# Altium footprint library fairy_lights_button.PcbLib: 10 footprints
Each footprint in its own frame and in the unit in brackets; x right, y up, seen from the top. Pads: shape width x height; smd on the part's side, far side on the other; paste and mask are expansions set on the pad; w line width, h text height; cw(c..) or ccw(c..) is an arc to the next point about the centre after c.
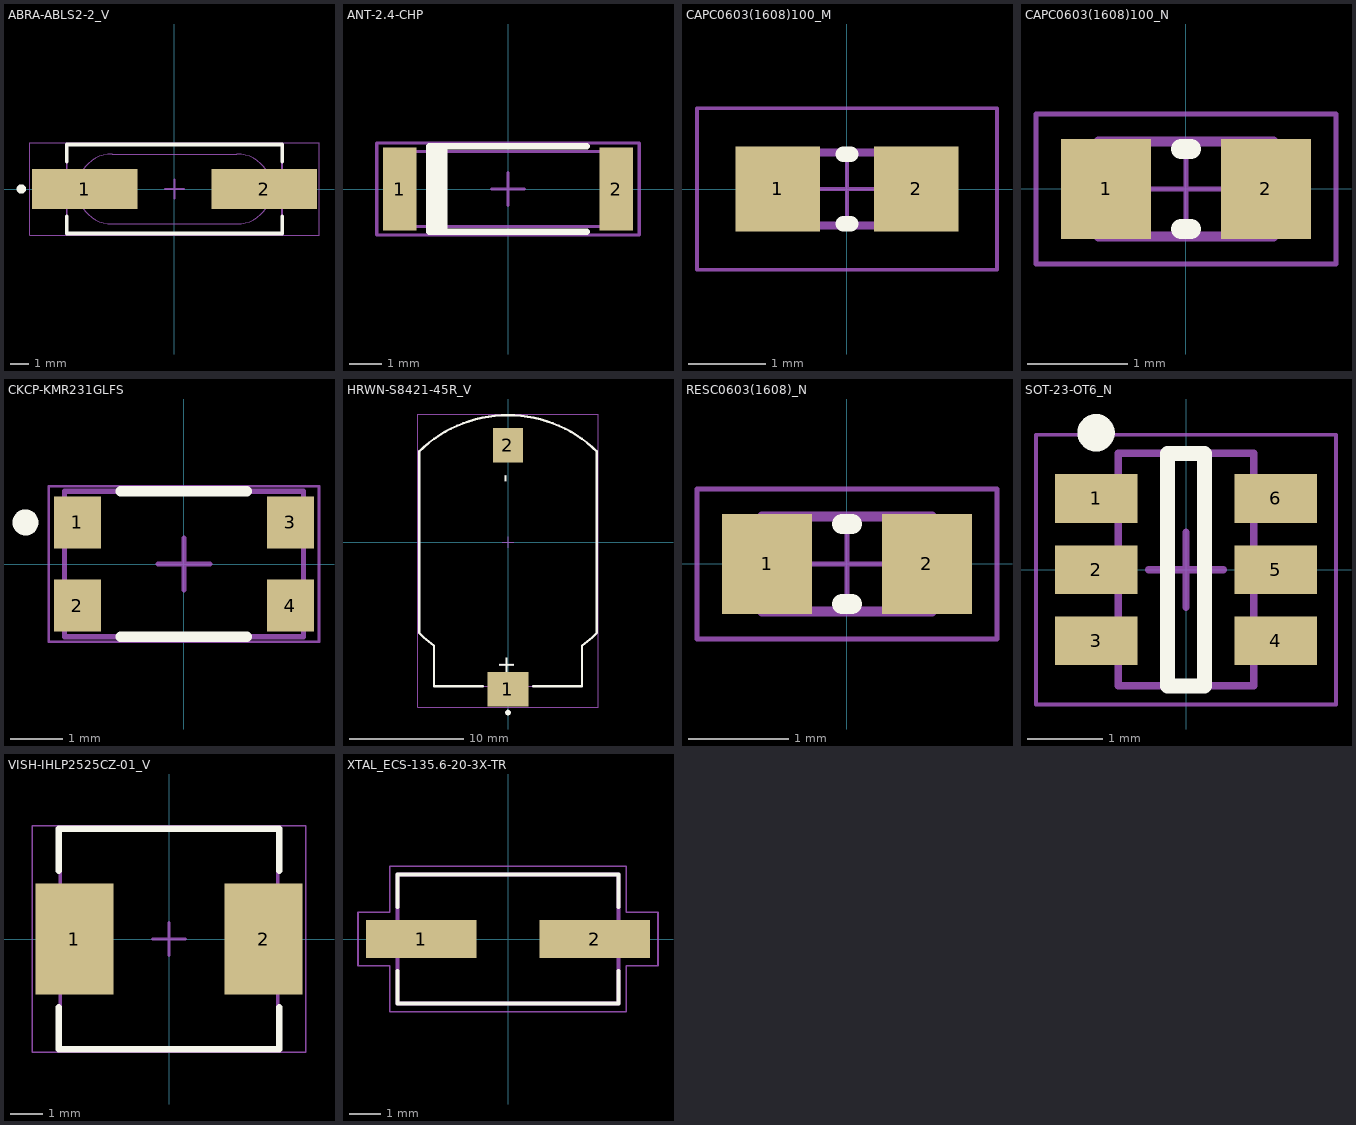
[diagram p0: the footprints below, top view; thin cyan lines are the x and y axes]

## ABRA-ABLS2-2_V [mm] "SMD, 2-Leads, Body 11.4x4.7mm, Height 3.3mm"
height 3.3
pads (2):
  rect 5.6x2.1 smd: 1(-4.75,0) 2(4.75,0)
Top Overlay:
  circle w0.25: c-8.1,0 r0.125
  lines w0.2: -5.7,-1.45 -5.7,-2.35 5.7,-2.35 5.7,-1.45 ; -5.7,1.45 -5.7,2.35 5.7,2.35 5.7,1.45
Mechanical 13:
  lines w0.05: -3.3,-1.85 cw(c-3.3,0) -3.3,1.85 3.3,1.85 cw(c3.3,0) 3.3,-1.85 -3.3,-1.85
  lines w0.1: -5.7,-2.35 5.7,-2.35 5.7,2.35 -5.7,2.35 -5.7,-2.35
Mechanical 15:
  lines w0.05: -7.65,-2.45 -7.65,2.45 7.65,2.45 7.65,-2.45 -7.65,-2.45
  lines w0.1: -0.5,0 0.5,0 ; 0,-0.5 0,0.5
3D body: height 3.3, standoff 0.5, extent -5.151,-1.851 5.151,1.851
3D body: height 0.5, standoff 0, extent -5.699,-2.349 5.699,2.349

## ANT-2.4-CHP [mil] "SM Antenna, 2-Lead, Body 6.5x2.2x1.0mm"
height 39.37
pads (2):
  rect 40x100 smd: 1(-130,0) 2(130,0)
Top Overlay:
  rectangle: -94.48,-51.18 -72.83,51.18
  lines w7.87: 94.49,-51.18 -94.49,-51.18 -94.49,51.18 94.49,51.18
Mechanical 13:
  lines w3.94: -130,-45 -130,45 130,45 130,-45 -130,-45
Mechanical 15:
  lines w3.94: -19.69,0 19.68,0 ; 0,-19.68 0,19.69 ; 157.48,-55.12 157.48,55.12 ; 157.48,-55.12 157.48,-55.12 ; 157.48,-55.12 -157.48,-55.12 -157.48,55.12 157.48,55.12 ; 157.48,-55.12 157.48,55.12 ; 157.48,55.12 157.48,55.12
3D body: height 40, standoff 0, extent -130,-45 130,45

## CAPC0603(1608)100_M [mm] "Chip Capacitor, Body 1.6x0.8mm, Height 1.0mm, IPC Low Density"
height 1
pads (2):
  rect 1.1x1.1 smd: 1(-0.9,0) 2(0.9,0)
Top Overlay:
  lines w0.2: -0.05,-0.45 0.05,-0.45 ; -0.05,0.45 0.05,0.45
Mechanical 13:
  lines w0.1: -0.875,-0.475 -0.875,0.475 0.875,0.475 0.875,-0.475 -0.875,-0.475
Mechanical 15:
  lines w0.05: -0.475,0 0.475,0 ; 0,-0.475 0,0.475 ; -1.95,-1.05 -1.95,1.05 1.95,1.05 1.95,-1.05 -1.95,-1.05
3D body: height 1, standoff 0, extent -0.525,-0.475 0.525,0.475
3D body: height 1, standoff 0, extent -0.875,-0.475 -0.525,0.475
3D body: height 1, standoff 0, extent 0.525,-0.475 0.875,0.475

## CAPC0603(1608)100_N [mm] "Chip Capacitor, Body 1.6x0.8mm, Height 1.0mm, IPC Medium Density"
height 1
pads (2):
  rect 0.9x1 smd: 1(-0.8,0) 2(0.8,0)
Top Overlay:
  lines w0.2: -0.05,-0.4 0.05,-0.4 ; -0.05,0.4 0.05,0.4
Mechanical 13:
  lines w0.1: -0.875,-0.475 -0.875,0.475 0.875,0.475 0.875,-0.475 -0.875,-0.475
Mechanical 15:
  lines w0.05: -0.475,0 0.475,0 ; 0,-0.475 0,0.475 ; -1.5,-0.75 -1.5,0.75 1.5,0.75 1.5,-0.75 -1.5,-0.75
3D body: height 1, standoff 0, extent -0.525,-0.475 0.525,0.475
3D body: height 1, standoff 0, extent -0.875,-0.475 -0.525,0.475
3D body: height 1, standoff 0, extent 0.525,-0.475 0.875,0.475

## CKCP-KMR231GLFS [mm] "SMD, 4-Leads, Body 4.6x2.8mm"
height 1.9
pads (4):
  rect 0.9x1 smd: 1(-2.05,0.8) 2(-2.05,-0.8) 3(2.05,0.8) 4(2.05,-0.8)
Top Overlay:
  circle w0.25: c-3.05,0.8 r0.125
  lines w0.2: -1.213,-1.4 1.213,-1.4 ; -1.213,1.4 1.213,1.4
Mechanical 13:
  lines w0.1: -2.3,-1.4 -2.3,1.4 2.3,1.4 2.3,-1.4 -2.3,-1.4
Mechanical 15:
  lines w0.05: -2.6,-1.5 2.6,-1.5 2.6,1.5 -2.6,1.5 -2.6,-1.5
  lines w0.1: -0.5,0 0.5,0 ; 0,-0.5 0,0.5
3D body "CU78M2G001FP-Q.stp": height 1.92, standoff -0.02, extent -2.3,-1.4 2.3,1.4

## HRWN-S8421-45R_V [mm] "Holder, 2-Leads, Body 23.79x15.6mm"
height 5.6
pads (2):
  rect 3.6x3 smd: 1(0,-12.9)
  rect 2.6x3 smd: 2(0,8.5)
Top Overlay:
  circle w0.25: c0,-14.95 r0.125
  lines w0.2: -7.8,-7.97 -7.8,7.97 ; -7.799,-7.969 ccw(c0,0) -6.5,-9.06 -6.5,-12.64 -2.2,-12.64 ; -7.799,7.969 cw(c0,0) 7.799,7.969 ; 2.2,-12.64 6.5,-12.64 6.5,-9.06 ccw(c0,0) 7.799,-7.969 ; 7.8,-7.97 7.8,7.97
  text "+" at -0.75,-9.9 h1.5
  text "-" at -0.762,5.207 h1.5
Mechanical 13:
  lines w0.1: -7.8,-7.97 -7.8,7.97 ; -7.799,-7.969 ccw(c0,0) -6.5,-9.06 -6.5,-12.64 6.5,-12.64 6.5,-9.06 ccw(c0,0) 7.799,-7.969 ; -7.799,7.969 cw(c0,0) 7.799,7.969 ; 7.8,-7.97 7.8,7.97
Mechanical 15:
  lines w0.05: -7.9,-14.5 7.9,-14.5 7.9,11.25 -7.9,11.25 -7.9,-14.5
  lines w0.1: -0.5,0 0.5,0 ; 0,-0.5 0,0.5
3D body: height 5.4, standoff 0, extent -7.8,-12.64 7.8,11.15

## RESC0603(1608)_N [mm] "Chip Resistor, Body 1.6x0.8mm, IPC Medium Density"
height 0.6
pads (2):
  rect 0.9x1 smd: 1(-0.8,0) 2(0.8,0)
Top Overlay:
  lines w0.2: -0.05,-0.4 0.05,-0.4 ; -0.05,0.4 0.05,0.4
Mechanical 13:
  lines w0.1: -0.85,-0.475 0.85,-0.475 0.85,0.475 -0.85,0.475 -0.85,-0.475
Mechanical 15:
  lines w0.05: -0.475,0 0.475,0 ; 0,-0.475 0,0.475 ; -1.5,-0.75 1.5,-0.75 1.5,0.75 -1.5,0.75 -1.5,-0.75
3D body: height 0.6, standoff 0, extent -0.849,-0.474 -0.58,0.475
3D body: height 0.6, standoff 0, extent -0.58,-0.474 0.581,0.475
3D body: height 0.6, standoff 0, extent 0.581,-0.474 0.85,0.475

## SOT-23-OT6_N [mm] "SOT23, 6-Leads, Body 2.9x1.7mm, Pitch 0.95mm, Lead Span 2.8mm, IPC Medium Density"
height 1.45
pads (6):
  rect 1.1x0.65 smd: 1(-1.2,0.95) 2(-1.2,0) 3(-1.2,-0.95) 4(1.2,-0.95) 5(1.2,0) 6(1.2,0.95)
Top Overlay:
  circle w0.25: c-1.2,1.825 r0.125
  lines w0.2: -0.25,-1.55 0.25,-1.55 0.25,1.55 -0.25,1.55 -0.25,-1.55
Mechanical 13:
  lines w0.1: -0.9,-1.55 -0.9,1.55 0.9,1.55 0.9,-1.55 -0.9,-1.55
Mechanical 15:
  lines w0.05: -2,-1.8 -2,1.8 2,1.8 2,-1.8 -2,-1.8
  lines w0.1: -0.5,0 0.5,0 ; 0,-0.5 0,0.5
3D body: height 1.45, standoff 0, extent -0.9,-1.55 0.9,1.55

## VISH-IHLP2525CZ-01_V [mil] "Molded Inductor, 2-Leads, Body 6.72x6.72mm"
height 118.11
pads (2):
  rect 95x135 smd: 1(-115,0) 2(115,0)
Top Overlay:
  lines w7.87: -133.86,-83.25 -133.86,-133.86 133.86,-133.86 133.86,-83.25 ; -133.86,83.25 -133.86,133.86 133.86,133.86 133.86,83.25
Mechanical 13:
  lines w3.94: -132.28,-132.28 -132.28,132.28 132.28,132.28 132.28,-132.28 -132.28,-132.28
Mechanical 15:
  lines w1.97: -166.44,-137.8 -166.44,137.8 166.44,137.8 166.44,-137.8 -166.44,-137.8
  lines w3.94: -19.68,0 19.68,0 ; 0,-19.68 0,19.68
3D body "INDM6565X30L.step": height 118.11, standoff 0, extent -140.94,-132.28 140.94,132.28

## XTAL_ECS-135.6-20-3X-TR [mm]
pads (2):
  rect 3.5x1.2 smd: 1(-2.75,0) 2(2.75,0)
Top Overlay:
  lines w0.127: -3.5,-1.01 -3.5,-2.05 3.5,-2.05 3.5,-1.01 ; -3.5,1.01 -3.5,2.05 3.5,2.05 3.5,1.01
Mechanical 13:
  lines w0.127: -3.5,-2.05 3.5,-2.05 ; -3.5,-2.05 -3.5,2.05 ; -3.5,-2.05 3.5,-2.05 ; -3.5,-2.05 -3.5,2.05 ; -3.5,2.05 3.5,2.05 ; -3.5,2.05 3.5,2.05 ; 3.5,-2.05 3.5,2.05 ; 3.5,-2.05 3.5,2.05
Mechanical 15:
  lines w0.05: -4.75,-0.85 -3.75,-0.85 -3.75,-2.3 3.75,-2.3 3.75,-0.85 4.75,-0.85 4.75,0.85 3.75,0.85 3.75,2.3 -3.75,2.3 -3.75,0.85 -4.75,0.85 -4.75,-0.85
3D body "ECS-120-20-3X-EN-TR.STEP": height 2.3, standoff 0, extent -3.8,-2.032 3.8,2.068